# EAGLE library part ATTINY85 (library ytani1)
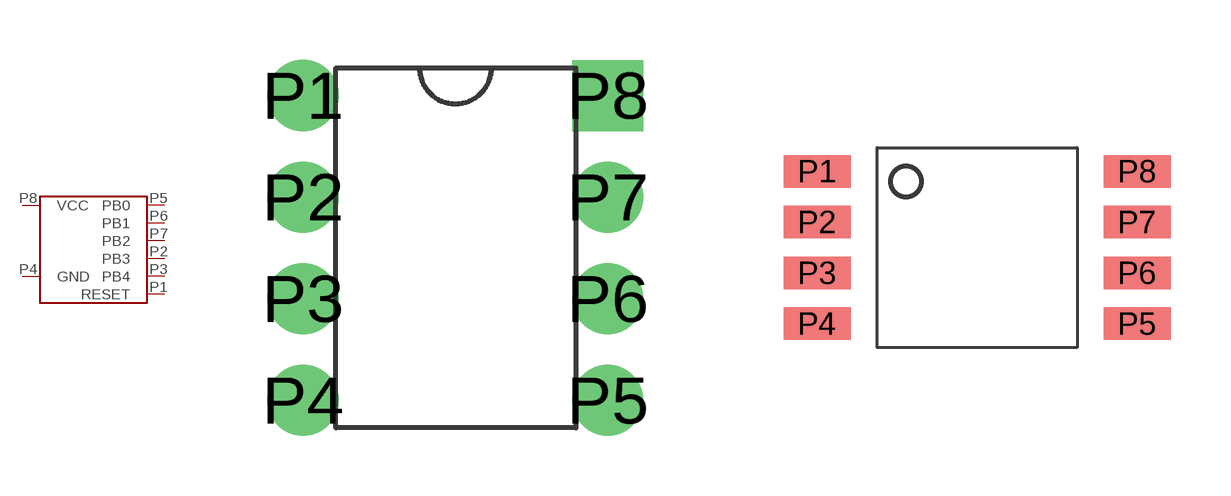
[diagram p10: symbol with the pads of ATTINY85-20PU; footprints ATTINY85-20PU, ATTINY85-20SUR]

Designator prefix ATTINY85-

## ATTINY85  [ATTINY85-20PU]
P1  RESET
P2  PB3
P3  PB4
P4  GND
P5  PB0
P6  PB1
P7  PB2
P8  VCC

## ATTINY85SOP8  [ATTINY85-20SUR]
Pads as for ATTINY85-20PU

## Footprint ATTINY85-20PU (pad centres in mm)
drill 1 pad 1.778: P1 -3.81,3.81; P2 -3.81,1.27; P3 -3.81,-1.27; P4 -3.81,-3.81; P5 3.81,-3.81; P6 3.81,-1.27; P7 3.81,1.27
drill 1 pad 1.778 square: P8 3.81,3.81

## Footprint ATTINY85-20SUR (pad centres in mm)
ATTINY85-20SUR SOP8 ちょっと幅広
smd 1.676 x 0.813: P1 -4,1.905; P2 -4,0.635; P3 -4,-0.635; P4 -4,-1.905; P5 4,-1.905; P6 4,-0.635; P7 4,0.635; P8 4,1.905